# Altium integrated library AI-1223-TWT-5V-5-R.IntLib: 1 symbol
Pins are listed as number, name and electrical type; pins without a type are passive.

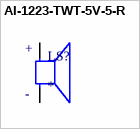
[diagram p0: symbol AI-1223-TWT-5V-5-R]

## AI-1223-TWT-5V-5-R
designator LS?
AUDIO INDICATOR 85 DB 5 VDC 2300 HZ; MP: AI-1223-TWT-5V-5-R; MF: PUI Audio,; Purchase-URL: https://pricing.snapeda.com/search/part/AI-1223-TWT-5V-5-R/?ref=eda; Check_prices: https://www.snapeda.com/parts/AI-1223-TWT-5V-5-R/PUI%20Audio,%20Inc./view-part/2746967/?ref=eda; Value: *; SnapEDA_Link: https://www.snapeda.com/parts/AI-1223-TWT-5V-5-R/PUI%20Audio,%20Inc./view-part/2746967/?ref=snap; Availability: In Stock; Price: None; Package: 2225 PUI Audio
footprint XDCR_AI-1223-TWT-5V-5-R
pins: N, P
text: +; -